# EAGLE library part CPL-CON-LCD-HDR-0.1IN-17P2-F (library TinWhiskers)
Connector: Header, 0.1" Pitch, 17x2P, Package: Thru-Hole, Vertical; Datasheet:
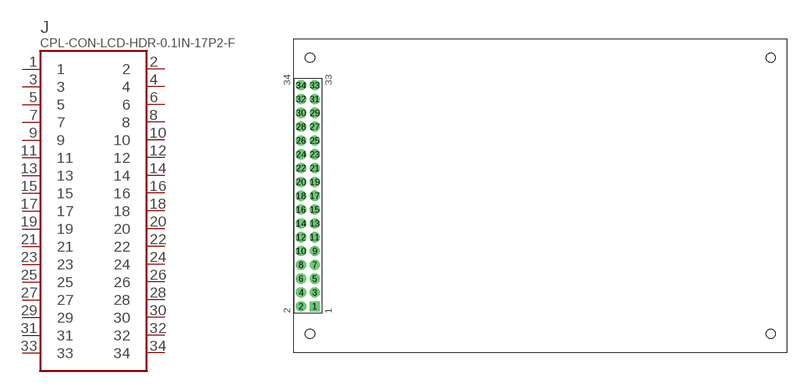
[diagram p43: symbol with the pads of LCD-34P-3.2IN; footprint LCD-34P-3.2IN]

Designator prefix J

## CPL-CON-LCD-HDR-0.1IN-17P2-F  [LCD-34P-3.2IN]
1  1
2  2
3  3
4  4
5  5
6  6
7  7
8  8
9  9
10  10
11  11
12  12
13  13
14  14
15  15
16  16
17  17
18  18
19  19
20  20
21  21
22  22
23  23
24  24
25  25
26  26
27  27
28  28
29  29
30  30
31  31
32  32
33  33
34  34

## Footprint LCD-34P-3.2IN (pad centres in mm)
Connector: Header, 0.1" Pitch, 34-Position (2-Row); Package: Thru-Hole; Datasheet: http://suddendocs.samtec.com/prints/tx-1xx-x-x-mkt1.pdf
drill 1.25 square: 1 -41.425,-20.32
drill 1.25: 2 -43.965,-20.32; 3 -41.425,-17.78; 4 -43.965,-17.78; 5 -41.425,-15.24; 6 -43.965,-15.24; 7 -41.425,-12.7; 8 -43.965,-12.7; 9 -41.425,-10.16; 10 -43.965,-10.16; 11 -41.425,-7.62; 12 -43.965,-7.62; 13 -41.425,-5.08; 14 -43.965,-5.08; 15 -41.425,-2.54; 16 -43.965,-2.54; 17 -41.425,0; 18 -43.965,0; 19 -41.425,2.54; 20 -43.965,2.54; 21 -41.425,5.08; 22 -43.965,5.08; 23 -41.425,7.62; 24 -43.965,7.62; 25 -41.425,10.16; 26 -43.965,10.16; 27 -41.425,12.7; 28 -43.965,12.7; 29 -41.425,15.24; 30 -43.965,15.24; 31 -41.425,17.78; 32 -43.965,17.78; 33 -41.425,20.32; 34 -43.965,20.32
hole 1.7 at -42.325,25.39
hole 1.7 at -42.325,-25.39
hole 1.7 at 42.325,25.39
hole 1.7 at 42.325,-25.39